# EAGLE library part ADP2302ARDZ-5.0-R7 (library ADP2302ARDZ-5.0-R7)
Step-Down Regulators Source: Datasheet
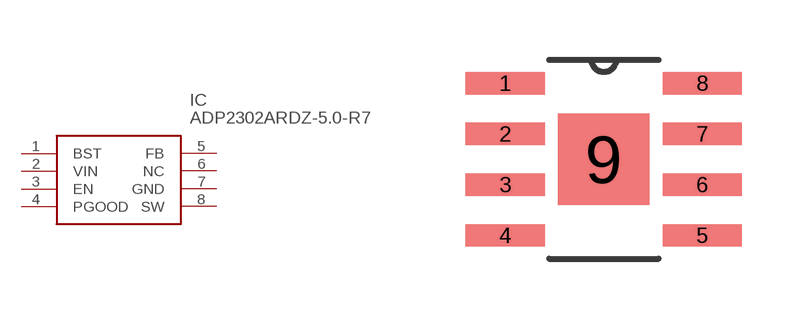
[diagram p0: symbol with the pads of SOIC127P600X175-9N; footprint SOIC127P600X175-9N]

Designator prefix IC

## ADP2302ARDZ-5.0-R7 (Arrow_Part_Number: ADP2302ARDZ-5.0-R7; Arrow_Price-Stock: https://www.arrow.com/en/products/adp2302ardz-5.0-r7/analog-devices; Description: Step-Down Regulators; Height: mm; Manufacturer_Name: Analog Devices; Manufacturer_Part_Number: ADP2302ARDZ-5.0-R7; RS_Part_Number: 7591815P; RS_Price-Stock: http://uk.rs-online.com/web/p/products/7591815P)  [SOIC127P600X175-9N]
1  BST
2  VIN
3  EN
4  PGOOD
5  FB
6  NC  nc
7  GND
8  SW

## Footprint SOIC127P600X175-9N (pad centres in mm)
SOIC127P600X175-9N
smd 1.981 x 0.559: 1 -2.464,1.905; 2 -2.464,0.635; 3 -2.464,-0.635; 4 -2.464,-1.905; 5 2.464,-1.905; 6 2.464,-0.635; 7 2.464,0.635; 8 2.464,1.905
smd 2.286 x 2.286: 9 0,0